# Altium schematic symbol library LPHPower_connector.SchLib: 1 symbol
Pins are listed as number, name and electrical type; pins without a type are passive.

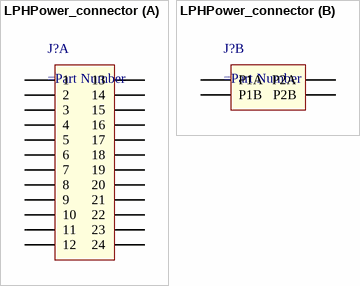
[diagram p0: symbol LPHPower_connector]

## LPHPower_connector
designator J?
part A pins: 1, 2, 3, 4, 5, 6, 7, 8, 9, 10, 11, 12, 13, 14, 15, 16, 17, 18, 19, 20, 21, 22, 23, 24
part B pins: P1A, P1B, P1B P2A, P2B